# Altium footprint library USB-TYPE-C-16P.PcbLib: 1 footprints
Each footprint in its own frame and in the unit in brackets; x right, y up, seen from the top. Pads: shape width x height; smd on the part's side, far side on the other; paste and mask are expansions set on the pad; w line width, h text height; cw(c..) or ccw(c..) is an arc to the next point about the centre after c.
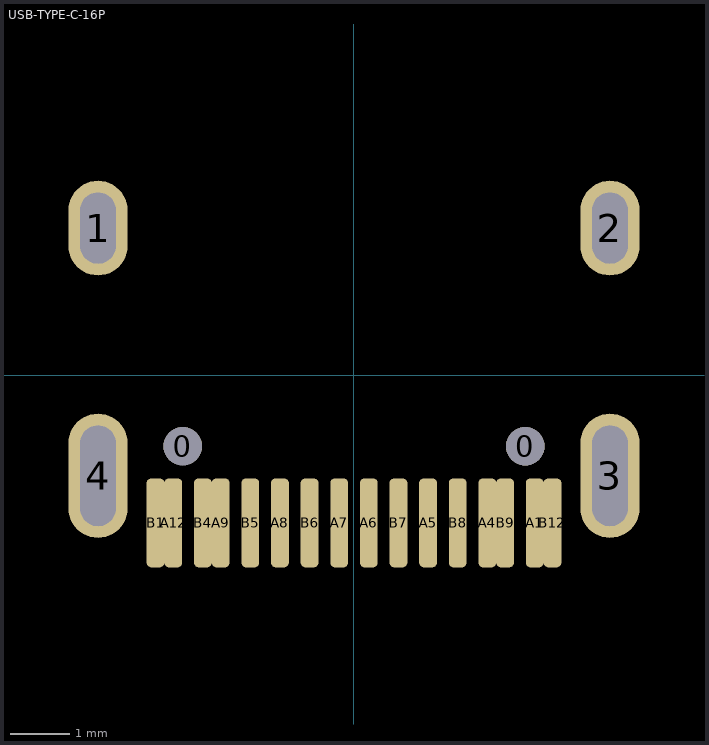
[diagram p0: the footprint, top view; thin cyan lines are the x and y axes]

## USB-TYPE-C-16P [mm] "USB 3.1 Type-C 16 Pin SMD"
pads (22):
  round 0.65 hole 0.65: 0(-2.89,-1.192) 0(2.89,-1.195)
  oval 1x1.6 hole 0.6 slot 1.2 at 90 deg: 1(-4.32,2.488) 2(4.32,2.488)
  oval 1x2.1 hole 0.6 slot 1.7 at 90 deg: 3(4.32,-1.692) 4(-4.32,-1.692)
  rrect50% 0.3x1.5 smd: A1(3.05,-2.487) A4(2.25,-2.487) A5(1.25,-2.487) A6(0.25,-2.487) A7(-0.25,-2.487) A8(-1.25,-2.487) A9(-2.25,-2.487) A12(-3.05,-2.487) B1(-3.35,-2.487) B4(-2.55,-2.487) B5(-1.75,-2.487) B6(-0.75,-2.487) B7(0.75,-2.487) B8(1.75,-2.487) B9(2.55,-2.487) B12(3.35,-2.487)
3D body "USB_type_C_smd_12p.step": height 3.2, standoff -1.27, extent -4.6,-2.797 4.6,5.153